# Altium footprint library 10 Pin SWD.PcbLib: 1 footprints
Each footprint in its own frame and in the unit in brackets; x right, y up, seen from the top. Pads: shape width x height; smd on the part's side, far side on the other; paste and mask are expansions set on the pad; w line width, h text height; cw(c..) or ccw(c..) is an arc to the next point about the centre after c.
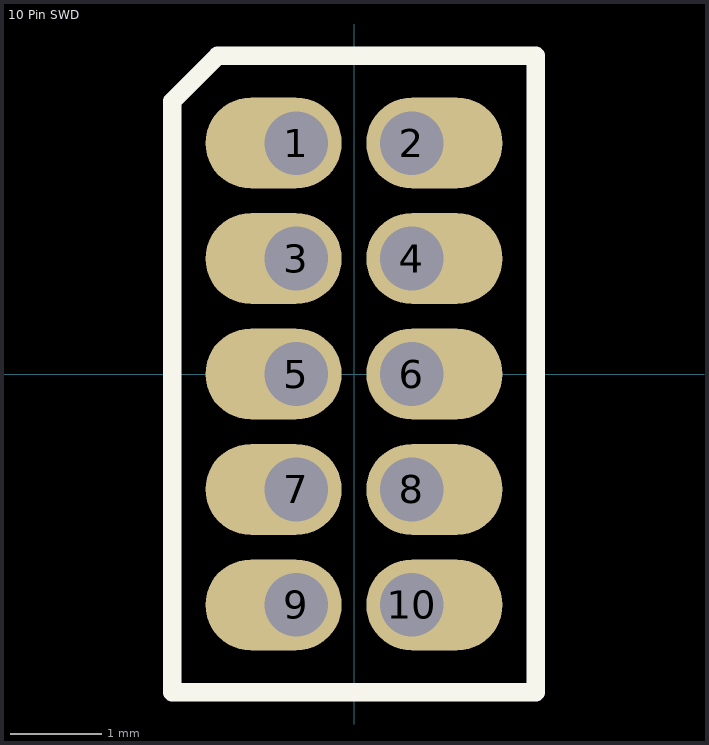
[diagram p0: the footprint, top view; thin cyan lines are the x and y axes]

## 10 Pin SWD [mm]
pads (10):
  oval 1.5x1 hole 0.7 copper offset -0.25,0: 1(-0.635,2.54) 3(-0.635,1.27) 5(-0.635,0) 7(-0.635,-1.27) 9(-0.635,-2.54)
  oval 1.5x1 hole 0.7 copper offset 0.25,0: 2(0.635,2.54) 4(0.635,1.27) 6(0.635,0) 8(0.635,-1.27) 10(0.635,-2.54)
Top Overlay:
  lines w0.2: -2,-3.5 2,-3.5 2,3.5 -1.5,3.5 -2,3 -2,-3.5